# EAGLE library part 18F25K22 (library PIC18F25K22)
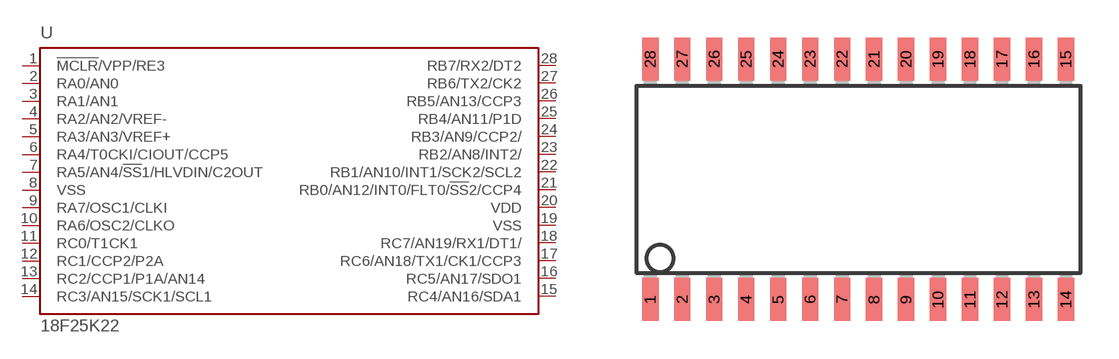
[diagram p1: symbol with the pads of SO28W; footprint SO28W]

Designator prefix -

## 18F25K22  [SO28W]
1  !MCLR!/VPP/RE3  in
2  RA0/AN0
3  RA1/AN1
4  RA2/AN2/VREF-
5  RA3/AN3/VREF+
6  RA4/T0CKI/CIOUT/CCP5
7  RA5/AN4/!SS!1/HLVDIN/C2OUT
8  VSS  pwr
9  RA7/OSC1/CLKI  in
10  RA6/OSC2/CLKO  out
11  RC0/T1CK1
12  RC1/CCP2/P2A
13  RC2/CCP1/P1A/AN14
14  RC3/AN15/SCK1/SCL1
15  RC4/AN16/SDA1
16  RC5/AN17/SDO1
17  RC6/AN18/TX1/CK1/CCP3
18  RC7/AN19/RX1/DT1/
19  VSS  pwr
20  VDD  pwr
21  RB0/AN12/INT0/FLT0/!SS!2/CCP4
22  RB1/AN10/INT1/SCK2/SCL2
23  RB2/AN8/INT2/
24  RB3/AN9/CCP2/
25  RB4/AN11/P1D
26  RB5/AN13/CCP3
27  RB6/TX2/CK2
28  RB7/RX2/DT2

## Footprint SO28W (pad centres in mm)
28-Lead Plastic Small Outline (SO) Wide, 300 mil Body (SOIC) Source: http://ww1.microchip.com/downloads/en/devicedoc/39632c.pdf
smd 0.65 x 1.7: 1 -7.62,-4.78; 2 -6.35,-4.78; 3 -5.08,-4.78; 4 -3.81,-4.78; 5 -2.54,-4.78; 6 -1.27,-4.78; 7 0,-4.78; 8 1.27,-4.78; 9 2.54,-4.78; 10 3.81,-4.78; 11 5.08,-4.78; 12 6.35,-4.78; 13 7.62,-4.78; 14 8.89,-4.78; 15 8.89,4.78; 16 7.62,4.78; 17 6.35,4.78; 18 5.08,4.78; 19 3.81,4.78; 20 2.54,4.78; 21 1.27,4.78; 22 0,4.78; 23 -1.27,4.78; 24 -2.54,4.78; 25 -3.81,4.78; 26 -5.08,4.78; 27 -6.35,4.78; 28 -7.62,4.78